# EAGLE library part IC74HC221 (library chuong)
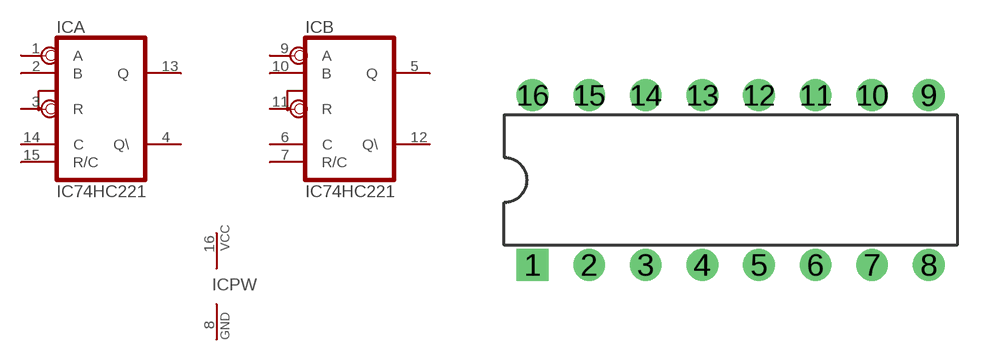
[diagram p82: symbol with the pads of DIL-16; footprint DIL-16]

Designator prefix IC; gates A=74HC221 B=74HC221 PW=POWER

## IC74HC221  [DIL-16]
1  A:A  in
2  A:B  in
3  A:R  in
4  A:Q\  out
5  B:Q  out
6  B:C  in
7  B:R/C  in
8  PW:GND  pwr
9  B:A  in
10  B:B  in
11  B:R  in
12  B:Q\  out
13  A:Q  out
14  A:C  in
15  A:R/C  in
16  PW:VCC  pwr

## Footprint DIL-16 (pad centres in mm)
drill 0.61 pad 1.422 square: 1 -8.89,-3.81
drill 0.61 pad 1.422 round: 2 -6.35,-3.81; 3 -3.81,-3.81; 4 -1.27,-3.81; 5 1.27,-3.81; 6 3.81,-3.81; 7 6.35,-3.81; 8 8.89,-3.81; 9 8.89,3.81; 10 6.35,3.81; 11 3.81,3.81; 12 1.27,3.81; 13 -1.27,3.81; 14 -3.81,3.81; 15 -6.35,3.81; 16 -8.89,3.81